# Altium footprint library MC_HEATSINK_ABL_LS85.PcbLib: 1 footprints
Each footprint in its own frame and in the unit in brackets; x right, y up, seen from the top. Pads: shape width x height; smd on the part's side, far side on the other; paste and mask are expansions set on the pad; w line width, h text height; cw(c..) or ccw(c..) is an arc to the next point about the centre after c.
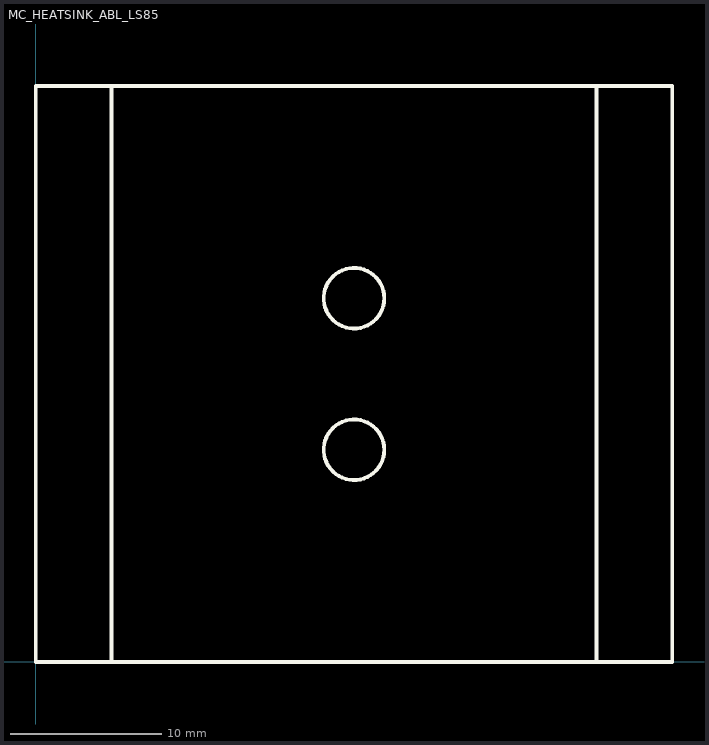
[diagram p0: the footprint, top view; thin cyan lines are the x and y axes]

## MC_HEATSINK_ABL_LS85 [mm] "Heat sink 7.1°C/W"
Top Overlay:
  circle w0.254: c21,24 r2
  circle w0.254: c21,14 r2
  lines w0.254: 5,0 5,38 ; 37,0 37,38 ; 0,0 42,0 42,38 0,38 0,0
3D body: height 2, standoff 0, extent 5,0 37,38
3D body: height 25, standoff 0, extent 37,0 42,38
3D body: height 25, standoff 0, extent 0,0 5,38